# Altium footprint library Battery.PcbLib: 4 footprints
Each footprint in its own frame and in the unit in brackets; x right, y up, seen from the top. Pads: shape width x height; smd on the part's side, far side on the other; paste and mask are expansions set on the pad; w line width, h text height; cw(c..) or ccw(c..) is an arc to the next point about the centre after c.
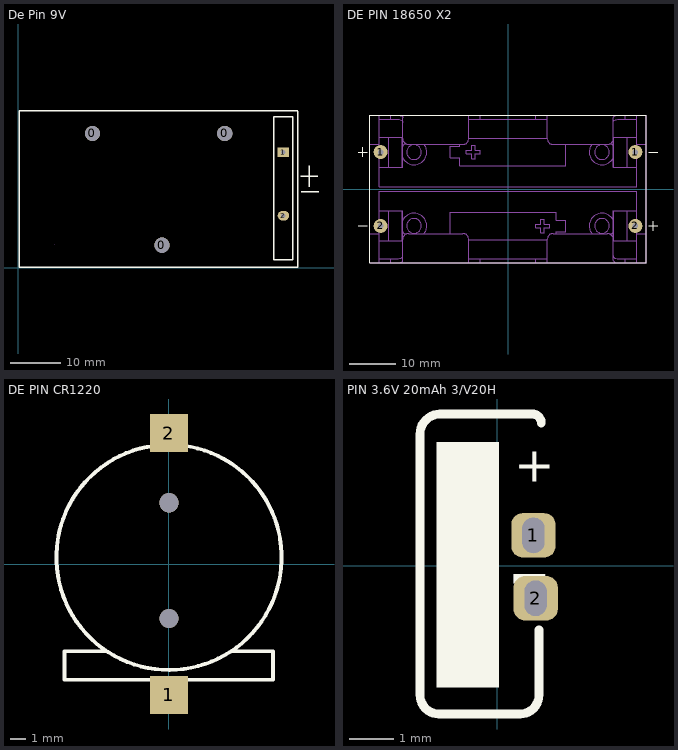
[diagram p0: the footprints below, top view; thin cyan lines are the x and y axes]

## De Pin 9V [mil]
pads (5):
  round 120 hole 120: 0(581.4,1052.4) 0(1126.9,175.9) 0(1620.4,1052.5)
  rect 90x75 hole 34: 1(2080.5,905.75)
  oval 90x75 hole 34: 2(2080.5,407.05)
Top Overlay:
  lines w10: 2193,1230.1 4.6,1230.1 4.6,3.1 2193.73,3.1 2193.73,1226.56 ; 2216.7,717.5 2351,717.5 ; 2221,595 2360,595 ; 2284.6,635.6 2284.6,799.3 ; 2005.5,60 2005.5,1185 2155.5,1185 2155.5,60 2005.5,60
Mechanical 1:
  lines w10: 283.75,183.25 283.8,183.29
3D body "User Library-9V Duracell Battery-1.STEP": height 894.49, standoff 205.51, extent 140.78,88.65 2050.23,1131.96
3D body "User Library-PP3 9V battery holder.STEP": height 855.91, standoff 44.88, extent 27.27,19.55 2172.93,1210.5

## DE PIN 18650 X2 [mil] "2-cell AA battery holder"
height 660
pads (4):
  round 120 hole 48: 1(-1086.61,314.96) 1(1086.61,314.96) 2(-1086.61,-314.96) 2(1086.61,-314.96)
Top Overlay:
  lines w5: -1279.53,-314.96 -1200.79,-314.96 ; -1279.53,314.96 -1200.79,314.96 ; -1240.16,275.59 -1240.16,354.33 ; 1200.79,-314.96 1279.53,-314.96 ; 1200.79,314.96 1279.53,314.96 ; 1240.16,-354.33 1240.16,-275.59
  lines w7.87: -1181.1,-629.92 -1181.1,629.92 1181.1,629.92 1181.1,-629.92 -1181.1,-629.92
Mechanical 13:
  drawing of 198 lines, arcs and shapes, not listed
3D body "2xAA Battery Holder.STEP": height 657.48, standoff -118.11, extent -1181.1,-629.91 1181.1,629.93
3D body "User Library-Battery-AAA.STEP": height 595.47, standoff 191.93, extent -918.03,-470 828.03,-66.45
3D body "User Library-Battery-AAA.STEP": height 595.47, standoff 191.93, extent -958.03,55 788.03,458.55

## DE PIN CR1220 [mm]
pads (2):
  rect 2.5x2.5 smd: 1(0,-8.6) 2(0,8.6)
via 0.005,-3.579 diameter 1.27 hole 1.27
via 0,4.026 diameter 1.27 hole 1.27
Top Overlay:
  lines w0.254: -4.194,-5.725 -6.868,-5.725 -6.868,-7.6 6.833,-7.6 6.833,-5.725 4.158,-5.725 ; -0.038,7.836 ccw(c0.005,0.439) 0,7.836
3D body "CR1220 SMD.STEP": height 4.27, standoff -0.48, extent -7.389,-9.42 7.36,9.38

## PIN 3.6V 20mAh 3/V20H [mm] "batttery"
height 1.1
pads (2):
  rrect50% 1x1 hole 0.5 slot 0.8 at 90 deg unplated: 1(0.813,0.686) 2(0.864,-0.737)
Top Overlay:
  region: -1.372,2.794 0.025,2.794 0.025,-2.743 -1.372,-2.743
  lines w0.2: 0.94,-1.448 0.94,-2.921 cw(c0.508,-2.921) 0.508,-3.353 -1.321,-3.353 cw(c-1.321,-2.921) -1.753,-2.921 -1.753,-2.819 -1.753,2.972 cw(c-1.295,2.972) -1.295,3.429 0.787,3.429 cw(c0.787,3.226) 0.991,3.226
  text "+" at 0.379,1.896 h0.8
  text "-" at 0.229,-1.05 h2
3D body "User Library-ms621fe.STEP": height 8.4, standoff -0.9, extent -1.742,-3.4 0.958,3.4